# EAGLE library part XR16M681IB25-F (library Exar_By_element14_Batch_1)
UART WITH 16-BYTE FIFO AND VLIO INTERFACE
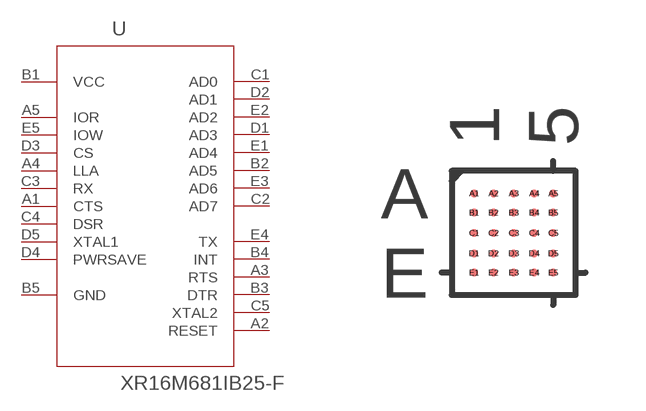
[diagram p68: symbol with the pads of BGA25C50P5X5_300X300X80; footprint BGA25C50P5X5_300X300X80]

Designator prefix U

## XR16M681IB25-F (MPN: XR16M681IB25-F; OC_FARNELL: -; OC_NEWARK: 65R6530; PACKAGE: BGA-25; SUPPLIER: Exar)  [BGA25C50P5X5_300X300X80]
A1  CTS  in
A2  RESET  out
A3  RTS  out
A4  LLA  in
A5  IOR  in
B1  VCC  pwr
B2  AD5
B3  DTR  out
B4  INT  out
B5  GND  pas
C1  AD0
C2  AD7
C3  RX  in
C4  DSR  in
C5  XTAL2  out
D1  AD3
D2  AD1
D3  CS  in
D4  PWRSAVE  in
D5  XTAL1  in
E1  AD4
E2  AD2
E3  AD6
E4  TX  out
E5  IOW  in

## Footprint BGA25C50P5X5_300X300X80 (pad centres in mm)
smd 0.203 x 0.203: A1 -0.991,0.991; A2 -0.508,0.991; A3 0,0.991; A4 0.508,0.991; A5 0.991,0.991; B1 -0.991,0.508; B2 -0.508,0.508; B3 0,0.508; B4 0.508,0.508; B5 0.991,0.508; C1 -0.991,0; C2 -0.508,0; C3 0,0; C4 0.508,0; C5 0.991,0; D1 -0.991,-0.508; D2 -0.508,-0.508; D3 0,-0.508; D4 0.508,-0.508; D5 0.991,-0.508; E1 -0.991,-0.991; E2 -0.508,-0.991; E3 0,-0.991; E4 0.508,-0.991; E5 0.991,-0.991